# Altium integrated library Transistor.IntLib: 3457 symbols (part 12 of 78)
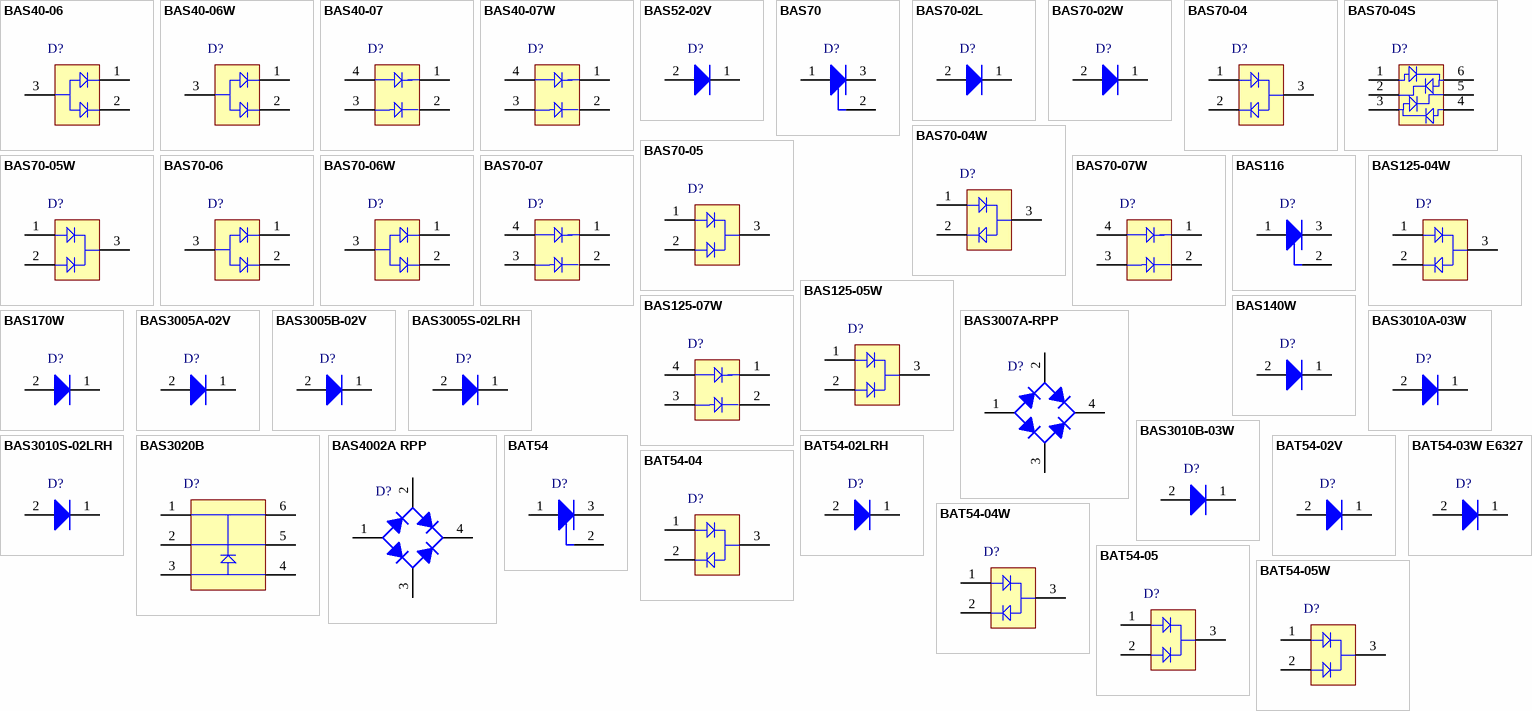
[diagram p105: symbols BAS40-06 to BAT54-05W]

## BAT54-04W
designator D?
Silicon Schottky Diode, SOT323, Reel, Green; Manufacturer: Infineon; PartNumber: BAT54-04W; Configuration: Dual; CT (max): 10 pF; Green: TRUE; IF (max): 200 mA; VF (max): 800 mV; VR (max): 30 V; PackageReference: SOT323; PackageDescription: 3-Pin Small Outline Transistor Package, 1.25 x 2 mm Body, 0.65 mm Pitch; Supplier 1: Mouser; Supplier Part Number 1: N/A; Halogen-free: TRUE; Packing: Reel; Mounting Technology: Surface Mount; ComponentLink1Description: Manufacturer URL; ComponentLink1URL: http://www.infineon.com/; ComponentLink2Description: Datasheet; ComponentLink2URL: http://www.infineon.com/dgdl/bat54series.pdf?folderId=db3a30431400ef68011425f1ca2505e3&fileId=db3a304314dca3890115190b74210ea6; ComponentLink3Description: Package Specification; ComponentLink3URL: http://www.infineon.com/dgdl/SOT323-Package_Overview.pdf?folderId=db3a30431936bc4b0119533e1dcb3c92&fileId=db3a30431936bc4b011953495f283cb1
footprint INF-SOT323_N (SOT23, 3-Leads, Body 2x1.25 mm, Pitch 0.65 mm, IPC Medium Density)
footprint INF-SOT323_L (SOT23, 3-Leads, Body 2x1.25 mm, Pitch 0.65 mm, IPC High Density)
footprint INF-SOT323_M (SOT23, 3-Leads, Body 2x1.25 mm, Pitch 0.65 mm, IPC Low Density)
pins: 1 A1, 2 K2, 3 C

## BAT54-05
designator D?
Silicon Schottky Diode, SOT23, Reel, Green; Manufacturer: Infineon; PartNumber: BAT54-05; Configuration: Dual; CT (max): 10 pF; Green: TRUE; IF (max): 200 mA; VF (max): 800 mV; VR (max): 30 V; PackageVersion: Apr-08; PackageReference: SOT23; PackageDescription: 3-Pin Small Outline Transistor Package, 1.3 x 2.9 mm Body, 0.95 mm Pitch; Supplier 1: Mouser; Supplier Part Number 1: N/A; Packing: Reel; Mounting Technology: Surface Mount; ComponentLink1Description: Manufacturer URL; ComponentLink1URL: http://www.infineon.com/; ComponentLink2Description: Datasheet; ComponentLink2URL: http://www.infineon.com/dgdl/bat54series.pdf?folderId=db3a30431400ef68011425f1ca2505e3&fileId=db3a304314dca3890115190b74210ea6; ComponentLink3Description: Package Specification; ComponentLink3URL: http://www.infineon.com/dgdl/SOT23-Package_Overview.pdf?folderId=db3a30431936bc4b0119532290053c66&fileId=db3a30431936bc4b0119533468123c85
footprint INF-SOT23_N (SOT23, 3-Leads, Body 2.9x1.3 mm, Pitch 0.95 mm, IPC Medium Density)
footprint INF-SOT23_L (SOT23, 3-Leads, Body 2.9x1.3 mm, Pitch 0.95 mm, IPC High Density)
footprint INF-SOT23_M (SOT23, 3-Leads, Body 2.9x1.3 mm, Pitch 0.95 mm, IPC Low Density)
pins: 1 A1, 2 A2, 3 K

## BAT54-05W
designator D?
Silicon Schottky Diode, SOT323, Reel, Green; Manufacturer: Infineon; PartNumber: BAT54-05W; Configuration: Dual; CT (max): 10 pF; Green: TRUE; IF (max): 200 mA; VF (max): 800 mV; VR (max): 30 V; PackageReference: SOT323; PackageDescription: 3-Pin Small Outline Transistor Package, 1.25 x 2 mm Body, 0.65 mm Pitch; Supplier 1: Mouser; Supplier Part Number 1: N/A; Halogen-free: TRUE; Packing: Reel; Mounting Technology: Surface Mount; ComponentLink1Description: Manufacturer URL; ComponentLink1URL: http://www.infineon.com/; ComponentLink2Description: Datasheet; ComponentLink2URL: http://www.infineon.com/dgdl/bat54series.pdf?folderId=db3a30431400ef68011425f1ca2505e3&fileId=db3a304314dca3890115190b74210ea6; ComponentLink3Description: Package Specification; ComponentLink3URL: http://www.infineon.com/dgdl/SOT323-Package_Overview.pdf?folderId=db3a30431936bc4b0119533e1dcb3c92&fileId=db3a30431936bc4b011953495f283cb1
footprint INF-SOT323_N (SOT23, 3-Leads, Body 2x1.25 mm, Pitch 0.65 mm, IPC Medium Density)
footprint INF-SOT323_L (SOT23, 3-Leads, Body 2x1.25 mm, Pitch 0.65 mm, IPC High Density)
footprint INF-SOT323_M (SOT23, 3-Leads, Body 2x1.25 mm, Pitch 0.65 mm, IPC Low Density)
pins: 1 A1, 2 A2, 3 K

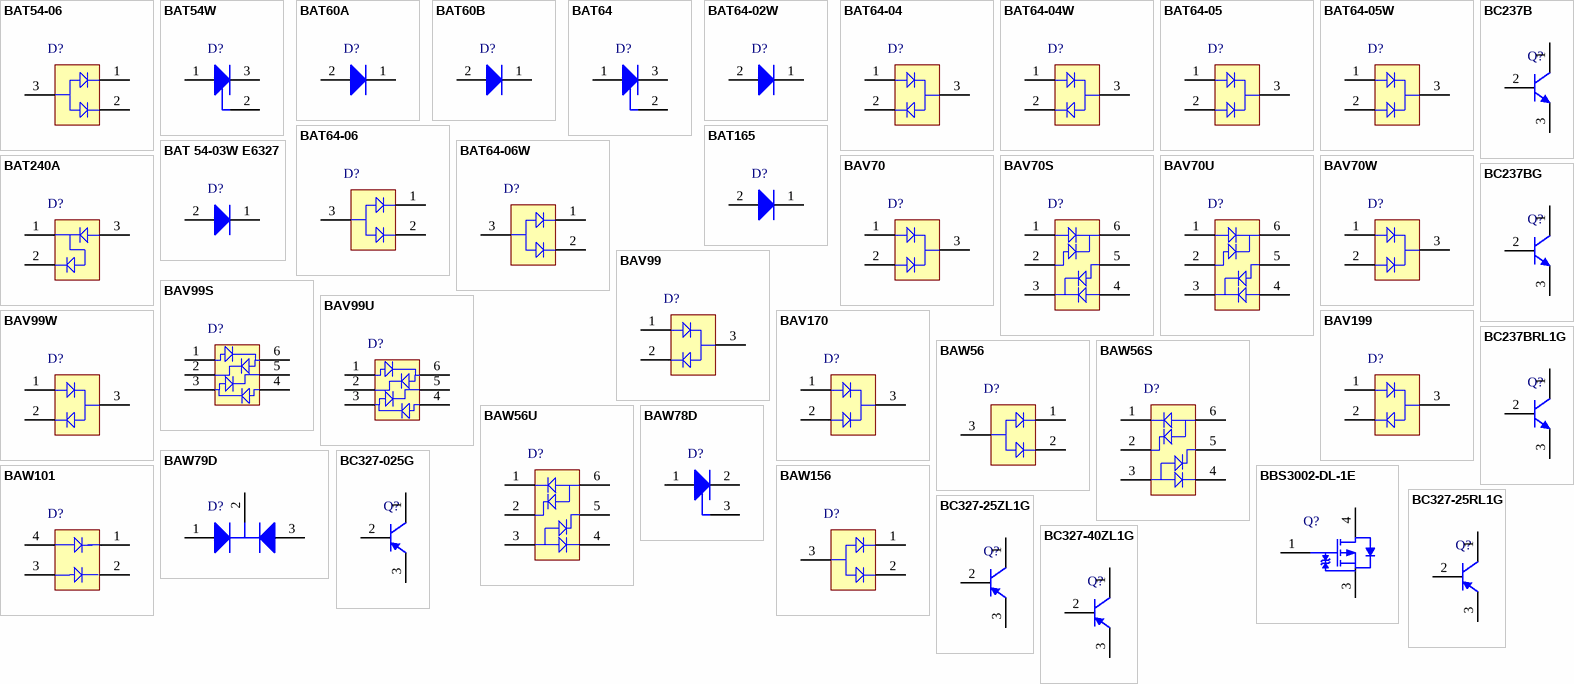
[diagram p13: symbols BAT54-06 to BC327-40ZL1G]

## BAT54-06
designator D?
Silicon Schottky Diode, SOT23, Reel, Green; Manufacturer: Infineon; PartNumber: BAT54-06; Configuration: Single; CT (max): 10 pF; Green: TRUE; IF (max): 200 mA; VF (max): 800 mV; VR (max): 30 V; PackageVersion: Apr-08; PackageReference: SOT23; PackageDescription: 3-Pin Small Outline Transistor Package, 1.3 x 2.9 mm Body, 0.95 mm Pitch; Supplier 1: Mouser; Supplier Part Number 1: N/A; Packing: Reel; Mounting Technology: Surface Mount; ComponentLink1Description: Manufacturer URL; ComponentLink1URL: http://www.infineon.com/; ComponentLink2Description: Datasheet; ComponentLink2URL: http://www.infineon.com/dgdl/bat54series.pdf?folderId=db3a30431400ef68011425f1ca2505e3&fileId=db3a304314dca3890115190b74210ea6; ComponentLink3Description: Package Specification; ComponentLink3URL: http://www.infineon.com/dgdl/SOT23-Package_Overview.pdf?folderId=db3a30431936bc4b0119532290053c66&fileId=db3a30431936bc4b0119533468123c85
footprint INF-SOT23_N (SOT23, 3-Leads, Body 2.9x1.3 mm, Pitch 0.95 mm, IPC Medium Density)
footprint INF-SOT23_L (SOT23, 3-Leads, Body 2.9x1.3 mm, Pitch 0.95 mm, IPC High Density)
footprint INF-SOT23_M (SOT23, 3-Leads, Body 2.9x1.3 mm, Pitch 0.95 mm, IPC Low Density)
pins: 1 K1, 2 K2, 3 A

## BAT54W
designator D?
Silicon Schottky Diode, SOT323, Reel, Green; Manufacturer: Infineon; PartNumber: BAT54W; Green: TRUE; PackageReference: SOT323; PackageDescription: 3-Pin Small Outline Transistor Package, 1.25 x 2 mm Body, 0.65 mm Pitch; Packing: Reel; Mounting Technology: Surface Mount; ComponentLink1Description: Manufacturer URL; ComponentLink1URL: http://www.infineon.com/; ComponentLink2Description: Datasheet; ComponentLink2URL: http://www.infineon.com/dgdl/bat54series.pdf?folderId=db3a30431400ef68011425f1ca2505e3&fileId=db3a304314dca3890115190b74210ea6; ComponentLink3Description: Package Specification; ComponentLink3URL: http://www.infineon.com/dgdl/SOT323-Package_Overview.pdf?folderId=db3a30431936bc4b0119533e1dcb3c92&fileId=db3a30431936bc4b011953495f283cb1
footprint INF-SOT323_N (SOT23, 3-Leads, Body 2x1.25 mm, Pitch 0.65 mm, IPC Medium Density)
footprint INF-SOT323_L (SOT23, 3-Leads, Body 2x1.25 mm, Pitch 0.65 mm, IPC High Density)
footprint INF-SOT323_M (SOT23, 3-Leads, Body 2x1.25 mm, Pitch 0.65 mm, IPC Low Density)
pins: 1 A, 2 NC, 3 K

## BAT60A
designator D?
Silicon Schottky Diode, -55 to 85 degC, SOD323, Reel, Green; Manufacturer: Infineon; PartNumber: BAT60A; Configuration: Single; CT (max): 35 pF; Green: TRUE; IF (max): 3,000 mA; VF (max): 370 mV; VR (max): 10 V; PackageReference: SOT323; PackageDescription: 3-Pin Small Outline Transistor Package, 1.25 x 2 mm Body, 0.65 mm Pitch; Supplier 1: Mouser; Supplier Part Number 1: N/A; Packing: Reel; Mounting Technology: Surface Mount; ComponentLink1Description: Manufacturer URL; ComponentLink1URL: http://www.infineon.com/; ComponentLink2Description: Datasheet; ComponentLink2URL: http://www.infineon.com/dgdl/bat60aseries.pdf?folderId=db3a304313d846880113def5812204a1&fileId=db3a304313d846880113def70c9304a9; ComponentLink3Description: Package Specification; ComponentLink3URL: http://www.infineon.com/dgdl/SOT323-Package_Overview.pdf?folderId=db3a30431936bc4b0119533e1dcb3c92&fileId=db3a30431936bc4b011953495f283cb1
footprint INF-SOT323_N (SOT23, 3-Leads, Body 2x1.25 mm, Pitch 0.65 mm, IPC Medium Density)
footprint INF-SOT323_L (SOT23, 3-Leads, Body 2x1.25 mm, Pitch 0.65 mm, IPC High Density)
footprint INF-SOT323_M (SOT23, 3-Leads, Body 2x1.25 mm, Pitch 0.65 mm, IPC Low Density)
pins: 1 K, 2 A

## BAT60B
designator D?
Silicon Schottky Diode, -55 to 125 degC, SOD323, Reel, Green; Manufacturer: Infineon; PartNumber: BAT60B; Configuration: Single; CT (max): 30 pF; Green: TRUE; IF (max): 3,000 mA; VF (max): 600 mV; VR (max): 10 V; PackageReference: SOT323; PackageDescription: 3-Pin Small Outline Transistor Package, 1.25 x 2 mm Body, 0.65 mm Pitch; Supplier 1: Mouser; Supplier Part Number 1: N/A; Packing: Reel; Mounting Technology: Surface Mount; ComponentLink1Description: Manufacturer URL; ComponentLink1URL: http://www.infineon.com/; ComponentLink2Description: Datasheet; ComponentLink2URL: http://www.infineon.com/dgdl/bat60bseries.pdf?folderId=db3a304313d846880113def5812204a1&fileId=db3a304314dca3890115195908c50f0b; ComponentLink3Description: Package Specification; ComponentLink3URL: http://www.infineon.com/dgdl/SOT323-Package_Overview.pdf?folderId=db3a30431936bc4b0119533e1dcb3c92&fileId=db3a30431936bc4b011953495f283cb1
footprint INF-SOT323_N (SOT23, 3-Leads, Body 2x1.25 mm, Pitch 0.65 mm, IPC Medium Density)
footprint INF-SOT323_L (SOT23, 3-Leads, Body 2x1.25 mm, Pitch 0.65 mm, IPC High Density)
footprint INF-SOT323_M (SOT23, 3-Leads, Body 2x1.25 mm, Pitch 0.65 mm, IPC Low Density)
pins: 1 K, 2 A

## BAT64
designator D?
Silicon Schottky Diode, SOT23, Reel, Green; Manufacturer: Infineon; PartNumber: BAT64; Configuration: Single; CT (max): 6 pF; Green: TRUE; IF (max): 250 mA; VF (max): 750 mV; VR (max): 40 V; PackageVersion: Apr-08; PackageReference: SOT23; PackageDescription: 3-Pin Small Outline Transistor Package, 1.3 x 2.9 mm Body, 0.95 mm Pitch; Packing: Reel; Mounting Technology: Surface Mount; ComponentLink1Description: Manufacturer URL; ComponentLink1URL: http://www.infineon.com/; ComponentLink2Description: Datasheet; ComponentLink2URL: http://www.infineon.com/dgdl/bat64series.pdf?folderId=db3a30431400ef68011425f1ca2505e3&fileId=db3a304314dca3890115191757980ead; ComponentLink3Description: Package Specification; ComponentLink3URL: http://www.infineon.com/dgdl/SOT23-Package_Overview.pdf?folderId=db3a30431936bc4b0119532290053c66&fileId=db3a30431936bc4b0119533468123c85
footprint INF-SOT23_N (SOT23, 3-Leads, Body 2.9x1.3 mm, Pitch 0.95 mm, IPC Medium Density)
footprint INF-SOT23_L (SOT23, 3-Leads, Body 2.9x1.3 mm, Pitch 0.95 mm, IPC High Density)
footprint INF-SOT23_M (SOT23, 3-Leads, Body 2.9x1.3 mm, Pitch 0.95 mm, IPC Low Density)
pins: 1 A, 2 NC, 3 K

## BAT64-02W
designator D?
Silicon Schottky Diode, SCD80, Reel, Green; Manufacturer: Infineon; PartNumber: BAT64-02W; Green: TRUE; PackageReference: SCD80; PackageDescription: 2-Pin Semiconductor Diode Package, 0.8 x 1.3 mm Body; Supplier 1: Mouser; Supplier Part Number 1: N/A; Supplier 2: Newark; Supplier Part Number 2: 68R0435; Supplier 3: Farnell; Supplier Part Number 3: 1791471; Halogen-free: TRUE; Mounting Technology: Surface Mount; ComponentLink1Description: Manufacturer URL; ComponentLink1URL: http://www.infineon.com/; ComponentLink2Description: Datasheet; ComponentLink2URL: http://www.infineon.com/dgdl/bat64series.pdf?folderId=db3a30431400ef68011425f1ca2505e3&fileId=db3a304314dca3890115191757980ead; ComponentLink3Description: Package Specification; ComponentLink3URL: http://www.infineon.com/dgdl/SCD80-Package_Overview.pdf?folderId=db3a30431936bc4b0119526bd5c83b5c&fileId=db3a30431936bc4b0119528065a43b7a
footprint INF-SCD80_V (SCD80, 2-Leads, Body 0.8x1.3 mm)
pins: 1 K, 2 A

## BAT64-04
designator D?
Silicon Schottky Diode, SOT23, Reel, Green; Manufacturer: Infineon; PartNumber: BAT64-04; Configuration: Dual; CT (max): 6 pF; Green: TRUE; IF (max): 250 mA; VF (max): 750 mV; VR (max): 40 V; PackageVersion: Apr-08; PackageReference: SOT23; PackageDescription: 3-Pin Small Outline Transistor Package, 1.3 x 2.9 mm Body, 0.95 mm Pitch; Supplier 1: Mouser; Supplier Part Number 1: N/A; Packing: Reel; Mounting Technology: Surface Mount; ComponentLink1Description: Manufacturer URL; ComponentLink1URL: http://www.infineon.com/; ComponentLink2Description: Datasheet; ComponentLink2URL: http://www.infineon.com/dgdl/bat64series.pdf?folderId=db3a30431400ef68011425f1ca2505e3&fileId=db3a304314dca3890115191757980ead; ComponentLink3Description: Package Specification; ComponentLink3URL: http://www.infineon.com/dgdl/SOT23-Package_Overview.pdf?folderId=db3a30431936bc4b0119532290053c66&fileId=db3a30431936bc4b0119533468123c85
footprint INF-SOT23_N (SOT23, 3-Leads, Body 2.9x1.3 mm, Pitch 0.95 mm, IPC Medium Density)
footprint INF-SOT23_L (SOT23, 3-Leads, Body 2.9x1.3 mm, Pitch 0.95 mm, IPC High Density)
footprint INF-SOT23_M (SOT23, 3-Leads, Body 2.9x1.3 mm, Pitch 0.95 mm, IPC Low Density)
pins: 1 A1, 2 K2, 3 C

## BAT64-04W
designator D?
Silicon Schottky Diode, SOT323, Reel, Green; Manufacturer: Infineon; PartNumber: BAT64-04W; Configuration: Dual; CT (max): 6 pF; Green: TRUE; IF (max): 250 mA; VF (max): 750 mV; VR (max): 40 V; PackageReference: SOT323; PackageDescription: 3-Pin Small Outline Transistor Package, 1.25 x 2 mm Body, 0.65 mm Pitch; Supplier 1: Mouser; Supplier Part Number 1: N/A; Halogen-free: TRUE; Packing: Reel; Mounting Technology: Surface Mount; ComponentLink1Description: Manufacturer URL; ComponentLink1URL: http://www.infineon.com/; ComponentLink2Description: Datasheet; ComponentLink2URL: http://www.infineon.com/dgdl/bat64series.pdf?folderId=db3a30431400ef68011425f1ca2505e3&fileId=db3a304314dca3890115191757980ead; ComponentLink3Description: Package Specification; ComponentLink3URL: http://www.infineon.com/dgdl/SOT323-Package_Overview.pdf?folderId=db3a30431936bc4b0119533e1dcb3c92&fileId=db3a30431936bc4b011953495f283cb1
footprint INF-SOT323_N (SOT23, 3-Leads, Body 2x1.25 mm, Pitch 0.65 mm, IPC Medium Density)
footprint INF-SOT323_L (SOT23, 3-Leads, Body 2x1.25 mm, Pitch 0.65 mm, IPC High Density)
footprint INF-SOT323_M (SOT23, 3-Leads, Body 2x1.25 mm, Pitch 0.65 mm, IPC Low Density)
pins: 1 A1, 2 K2, 3 C

## BAT64-05
designator D?
Silicon Schottky Diode, SOT23, Reel, Green; Manufacturer: Infineon; PartNumber: BAT64-05; Configuration: Dual; CT (max): 6 pF; Green: TRUE; IF (max): 250 mA; VF (max): 750 mV; VR (max): 40 V; PackageVersion: Apr-08; PackageReference: SOT23; PackageDescription: 3-Pin Small Outline Transistor Package, 1.3 x 2.9 mm Body, 0.95 mm Pitch; Supplier 1: Mouser; Supplier Part Number 1: N/A; Packing: Reel; Mounting Technology: Surface Mount; ComponentLink1Description: Manufacturer URL; ComponentLink1URL: http://www.infineon.com/; ComponentLink2Description: Datasheet; ComponentLink2URL: http://www.infineon.com/dgdl/bat64series.pdf?folderId=db3a30431400ef68011425f1ca2505e3&fileId=db3a304314dca3890115191757980ead; ComponentLink3Description: Package Specification; ComponentLink3URL: http://www.infineon.com/dgdl/SOT23-Package_Overview.pdf?folderId=db3a30431936bc4b0119532290053c66&fileId=db3a30431936bc4b0119533468123c85
footprint INF-SOT23_N (SOT23, 3-Leads, Body 2.9x1.3 mm, Pitch 0.95 mm, IPC Medium Density)
footprint INF-SOT23_L (SOT23, 3-Leads, Body 2.9x1.3 mm, Pitch 0.95 mm, IPC High Density)
footprint INF-SOT23_M (SOT23, 3-Leads, Body 2.9x1.3 mm, Pitch 0.95 mm, IPC Low Density)
pins: 1 A1, 2 A2, 3 K

## BAT64-05W
designator D?
Silicon Schottky Diode, SOT323, Reel, Green; Manufacturer: Infineon; PartNumber: BAT64-05W; Configuration: Dual; CT (max): 6 pF; Green: TRUE; IF (max): 250 mA; VF (max): 750 mV; VR (max): 40 V; PackageReference: SOT323; PackageDescription: 3-Pin Small Outline Transistor Package, 1.25 x 2 mm Body, 0.65 mm Pitch; Supplier 1: Mouser; Supplier Part Number 1: N/A; Halogen-free: TRUE; Packing: Reel; Mounting Technology: Surface Mount; ComponentLink1Description: Manufacturer URL; ComponentLink1URL: http://www.infineon.com/; ComponentLink2Description: Datasheet; ComponentLink2URL: http://www.infineon.com/dgdl/bat64series.pdf?folderId=db3a30431400ef68011425f1ca2505e3&fileId=db3a304314dca3890115191757980ead; ComponentLink3Description: Package Specification; ComponentLink3URL: http://www.infineon.com/dgdl/SOT323-Package_Overview.pdf?folderId=db3a30431936bc4b0119533e1dcb3c92&fileId=db3a30431936bc4b011953495f283cb1
footprint INF-SOT323_N (SOT23, 3-Leads, Body 2x1.25 mm, Pitch 0.65 mm, IPC Medium Density)
footprint INF-SOT323_L (SOT23, 3-Leads, Body 2x1.25 mm, Pitch 0.65 mm, IPC High Density)
footprint INF-SOT323_M (SOT23, 3-Leads, Body 2x1.25 mm, Pitch 0.65 mm, IPC Low Density)
pins: 1 A1, 2 A2, 3 K

## BAT64-06
designator D?
Silicon Schottky Diode, SOT23, Reel, Green; Manufacturer: Infineon; PartNumber: BAT64-06; Configuration: Dual; CT (max): 6 pF; Green: TRUE; IF (max): 250 mA; VF (max): 750 mV; VR (max): 40 V; PackageVersion: Apr-08; PackageReference: SOT23; PackageDescription: 3-Pin Small Outline Transistor Package, 1.3 x 2.9 mm Body, 0.95 mm Pitch; Supplier 1: Mouser; Supplier Part Number 1: N/A; Packing: Reel; Mounting Technology: Surface Mount; ComponentLink1Description: Manufacturer URL; ComponentLink1URL: http://www.infineon.com/; ComponentLink2Description: Datasheet; ComponentLink2URL: http://www.infineon.com/dgdl/bat64series.pdf?folderId=db3a30431400ef68011425f1ca2505e3&fileId=db3a304314dca3890115191757980ead; ComponentLink3Description: Package Specification; ComponentLink3URL: http://www.infineon.com/dgdl/SOT23-Package_Overview.pdf?folderId=db3a30431936bc4b0119532290053c66&fileId=db3a30431936bc4b0119533468123c85
footprint INF-SOT23_N (SOT23, 3-Leads, Body 2.9x1.3 mm, Pitch 0.95 mm, IPC Medium Density)
footprint INF-SOT23_L (SOT23, 3-Leads, Body 2.9x1.3 mm, Pitch 0.95 mm, IPC High Density)
footprint INF-SOT23_M (SOT23, 3-Leads, Body 2.9x1.3 mm, Pitch 0.95 mm, IPC Low Density)
pins: 1 K1, 2 K2, 3 A

## BAT64-06W
designator D?
Silicon Schottky Diode, SOT323, Reel, Green; Manufacturer: Infineon; PartNumber: BAT64-06W; Configuration: Dual; CT (max): 6 pF; Green: TRUE; IF (max): 250 mA; VF (max): 750 mV; VR (max): 40 V; PackageReference: SOT323; PackageDescription: 3-Pin Small Outline Transistor Package, 1.25 x 2 mm Body, 0.65 mm Pitch; Supplier 1: Mouser; Supplier Part Number 1: N/A; Halogen-free: TRUE; Packing: Reel; Mounting Technology: Surface Mount; ComponentLink1Description: Manufacturer URL; ComponentLink1URL: http://www.infineon.com/; ComponentLink2Description: Datasheet; ComponentLink2URL: http://www.infineon.com/dgdl/bat64series.pdf?folderId=db3a30431400ef68011425f1ca2505e3&fileId=db3a304314dca3890115191757980ead; ComponentLink3Description: Package Specification; ComponentLink3URL: http://www.infineon.com/dgdl/SOT323-Package_Overview.pdf?folderId=db3a30431936bc4b0119533e1dcb3c92&fileId=db3a30431936bc4b011953495f283cb1
footprint INF-SOT323_N (SOT23, 3-Leads, Body 2x1.25 mm, Pitch 0.65 mm, IPC Medium Density)
footprint INF-SOT323_L (SOT23, 3-Leads, Body 2x1.25 mm, Pitch 0.65 mm, IPC High Density)
footprint INF-SOT323_M (SOT23, 3-Leads, Body 2x1.25 mm, Pitch 0.65 mm, IPC Low Density)
pins: 1 K1, 2 K2, 3 A

## BAT165
designator D?
Medium Power AF Schottky Diode, SOD323, Reel, Green; Manufacturer: Infineon; PartNumber: BAT165; Configuration: Single; CT (max): 12 pF; Green: TRUE; IF (max): 750 mA; VF (max): 700 mV; VR (max): 40 V; PackageReference: SOD323; PackageDescription: 2-Pin Small Outline Diode Package, 1.25 x 1.7 mm Body; Supplier 1: Mouser; Supplier Part Number 1: N/A; Supplier 2: Newark; Supplier Part Number 2: 34M5211; Supplier 3: Farnell; Supplier Part Number 3: 1056502RL; Supplier 4: Farnell; Supplier Part Number 4: 1056502; Packing: Reel; Mounting Technology: Surface Mount; ComponentLink1Description: Manufacturer URL; ComponentLink1URL: http://www.infineon.com/; ComponentLink2Description: Datasheet; ComponentLink2URL: http://www.infineon.com/dgdl/bat165series.pdf?folderId=db3a304313d846880113def5812204a1&fileId=db3a304313d846880113df01f69804d6; ComponentLink3Description: Package Specification; ComponentLink3URL: http://www.infineon.com/dgdl/SOD323-Package_Overview.pdf?folderId=db3a30431936bc4b011952aab84f3bbe&fileId=db3a30431936bc4b011952beed653be3
footprint INF-SOD323_V (SOD, 2-Leads, Body 1.7x1.25 mm)
pins: 1 K, 2 A

## BAT240A
designator D?
High Voltage Schottky Diode, -55 to 125 degC, SOT23, Reel, Green; Manufacturer: Infineon; PartNumber: BAT240A; Configuration: Single; Green: TRUE; IF (max): 400 mA; IR (max): 10 uA; VBR (min): 240 V; VF (max): 0.47 V; PackageVersion: Apr-08; PackageReference: SOT23; PackageDescription: 3-Pin Small Outline Transistor Package, 1.3 x 2.9 mm Body, 0.95 mm Pitch; Supplier 1: Mouser; Supplier Part Number 1: N/A; VR (max): 240 V; Mounting Technology: Surface Mount; ComponentLink1Description: Manufacturer URL; ComponentLink1URL: http://www.infineon.com/; ComponentLink2Description: Datasheet; ComponentLink2URL: http://www.infineon.com/dgdl/bat240series.pdf?folderId=db3a30431400ef68011425f1ca2505e3&fileId=db3a30431400ef68011425f3496905e4; ComponentLink3Description: Package Specification; ComponentLink3URL: http://www.infineon.com/dgdl/SOT23-Package_Overview.pdf?folderId=db3a30431936bc4b0119532290053c66&fileId=db3a30431936bc4b0119533468123c85
footprint INF-SOT23_N (SOT23, 3-Leads, Body 2.9x1.3 mm, Pitch 0.95 mm, IPC Medium Density)
footprint INF-SOT23_L (SOT23, 3-Leads, Body 2.9x1.3 mm, Pitch 0.95 mm, IPC High Density)
footprint INF-SOT23_M (SOT23, 3-Leads, Body 2.9x1.3 mm, Pitch 0.95 mm, IPC Low Density)
pins: 1 C, 2 K2, 3 A1

## BAT 54-03W E6327
designator D?
Silicon Schottky Diode, SOD323, Reel, Green; Manufacturer: Infineon; PartNumber: BAT 54-03W E6327; Green: TRUE; PackageReference: SOD323; PackageDescription: 2-Pin Small Outline Diode Package, 1.25 x 1.7 mm Body; Supplier 1: Digi-Key; Supplier Part Number 1: BAT 54-03W E6327-ND; Packing: Reel; Mounting Technology: Surface Mount; ComponentLink1Description: Manufacturer URL; ComponentLink1URL: http://www.infineon.com/; ComponentLink2Description: Datasheet; ComponentLink2URL: http://www.infineon.com/dgdl/bat54series.pdf?folderId=db3a30431400ef68011425f1ca2505e3&fileId=db3a304314dca3890115190b74210ea6; ComponentLink3Description: Package Specification; ComponentLink3URL: http://www.infineon.com/dgdl/SOD323-Package_Overview.pdf?folderId=db3a30431936bc4b011952aab84f3bbe&fileId=db3a30431936bc4b011952beed653be3
footprint INF-SOD323_V (SOD, 2-Leads, Body 1.7x1.25 mm)
pins: 1 K, 2 A

## BAV70
designator D?
Silicon Switching Diode, SOT23, Reel, Green; Manufacturer: Infineon; PartNumber: BAV70; Configuration: Dual; Green: TRUE; IF (max): 200 mA; IR (max): 150 nA; trr (max): 4 ns; VBR (min): 85 V; VF (max): 1.25 V; VR (max): 80 V; PackageVersion: Apr-08; PackageReference: SOT23; PackageDescription: 3-Pin Small Outline Transistor Package, 1.3 x 2.9 mm Body, 0.95 mm Pitch; Supplier 1: Newark; Supplier Part Number 1: 14M4487; Supplier 2: Farnell; Supplier Part Number 2: 1056503; Supplier 3: Farnell; Supplier Part Number 3: 1056503RL; Mounting Technology: Surface Mount; ComponentLink1Description: Manufacturer URL; ComponentLink1URL: http://www.infineon.com/; ComponentLink2Description: Datasheet; ComponentLink2URL: http://www.infineon.com/dgdl/bav70series.pdf?folderId=db3a30431400ef6801141b5844e103ea&fileId=db3a30431400ef6801141c0ba40e041d; ComponentLink3Description: Package Specification; ComponentLink3URL: http://www.infineon.com/dgdl/SOT23-Package_Overview.pdf?folderId=db3a30431936bc4b0119532290053c66&fileId=db3a30431936bc4b0119533468123c85
footprint INF-SOT23_N (SOT23, 3-Leads, Body 2.9x1.3 mm, Pitch 0.95 mm, IPC Medium Density)
footprint INF-SOT23_L (SOT23, 3-Leads, Body 2.9x1.3 mm, Pitch 0.95 mm, IPC High Density)
footprint INF-SOT23_M (SOT23, 3-Leads, Body 2.9x1.3 mm, Pitch 0.95 mm, IPC Low Density)
pins: 1 A1, 2 A2, 3 K

## BAV70S
designator D?
Silicon Switching Diode, SOT363, Reel, Green; Manufacturer: Infineon; PartNumber: BAV70S; Configuration: Double dual; Green: TRUE; IF (max): 200 mA; IR (max): 150 nA; trr (max): 4 ns; VBR (min): 85 V; VF (max): 1.25 V; VR (max): 80 V; PackageReference: SOT363; PackageDescription: 6-Pin Small Outline Transistor Package, 1.25 x 2 mm Body; Halogen-free: TRUE; Mounting Technology: Surface Mount; ComponentLink1Description: Manufacturer URL; ComponentLink1URL: http://www.infineon.com/; ComponentLink2Description: Datasheet; ComponentLink2URL: http://www.infineon.com/dgdl/bav70series.pdf?folderId=db3a30431400ef6801141b5844e103ea&fileId=db3a30431400ef6801141c0ba40e041d; ComponentLink3Description: Package Specification; ComponentLink3URL: http://www.infineon.com/dgdl/SOT363-Package_Overview.pdf?folderId=db3a30431936bc4b01195360bd8f3cdc&fileId=db3a30431936bc4b0119536b62bf3cf5
footprint INF-SOT363_V (SOT23, 6-Leads, Body 2x1.25 mm, Pitch 0.65 mm)
pins: 1 A1, 2 A2, 3 K3, 4 A4, 5 A5, 6 K6

## BAV70U
designator D?
Silicon Switching Diode, SC74, Reel, Green; Manufacturer: Infineon; PartNumber: BAV70U; Configuration: Double dual; Green: TRUE; IF (max): 200 mA; IR (max): 150 nA; trr (max): 4 ns; VBR (min): 85 V; VF (max): 1.25 V; VR (max): 80 V; PackageVersion: Apr-08; PackageReference: SC74; PackageDescription: 6-Pin Semiconductor Package, 2.9 x 1.6 mm Body, 0.95 mm Pitch; Supplier 1: Mouser; Supplier Part Number 1: N/A; Mounting Technology: Surface Mount; ComponentLink1Description: Manufacturer URL; ComponentLink1URL: http://www.infineon.com/; ComponentLink2Description: Datasheet; ComponentLink2URL: http://www.infineon.com/dgdl/bav70series.pdf?folderId=db3a30431400ef6801141b5844e103ea&fileId=db3a30431400ef6801141c0ba40e041d; ComponentLink3Description: Package Specification; ComponentLink3URL: http://www.infineon.com/dgdl/SC74-Package_Overview.pdf?folderId=db3a30431936bc4b01194dec844f40d9&fileId=db3a30431936bc4b01195175d46e3ab3
footprint INF-SC74_N (SOT23, 6-Leads, Body 2.9x1.6mm, Pitch 0.95mm, IPC Medium Density)
footprint INF-SC74_L (SOT23, 6-Leads, Body 2.9x1.6mm, Pitch 0.95mm, IPC High Density)
footprint INF-SC74_M (SOT23, 6-Leads, Body 2.9x1.6mm, Pitch 0.95mm, IPC Low Density)
pins: 1 A1, 2 A2, 3 K3, 4 A4, 5 A5, 6 K6

## BAV70W
designator D?
Silicon Switching Diode, SOT323, Reel, Green; Manufacturer: Infineon; PartNumber: BAV70W; Configuration: Dual; Green: TRUE; IF (max): 200 mA; IR (max): 150 nA; trr (max): 4 ns; VBR (min): 85 V; VF (max): 1.25 V; VR (max): 80 V; PackageReference: SOT323; PackageDescription: 3-Pin Small Outline Transistor Package, 1.25 x 2 mm Body, 0.65 mm Pitch; Supplier 1: Arrow; Supplier Part Number 1: rew_W9gXtQS1zu5LZcYw6ec56YdkqtewGxa5ZWzM5Ck; Halogen-free: TRUE; Mounting Technology: Surface Mount; ComponentLink1Description: Manufacturer URL; ComponentLink1URL: http://www.infineon.com/; ComponentLink2Description: Datasheet; ComponentLink2URL: http://www.infineon.com/dgdl/bav70series.pdf?folderId=db3a30431400ef6801141b5844e103ea&fileId=db3a30431400ef6801141c0ba40e041d; ComponentLink3Description: Package Specification; ComponentLink3URL: http://www.infineon.com/dgdl/SOT323-Package_Overview.pdf?folderId=db3a30431936bc4b0119533e1dcb3c92&fileId=db3a30431936bc4b011953495f283cb1
footprint INF-SOT323_N (SOT23, 3-Leads, Body 2x1.25 mm, Pitch 0.65 mm, IPC Medium Density)
footprint INF-SOT323_L (SOT23, 3-Leads, Body 2x1.25 mm, Pitch 0.65 mm, IPC High Density)
footprint INF-SOT323_M (SOT23, 3-Leads, Body 2x1.25 mm, Pitch 0.65 mm, IPC Low Density)
pins: 1 A1, 2 A2, 3 K

## BAV99
designator D?
Silicon Switching Diode, SOT23, Reel, Green; Manufacturer: Infineon; PartNumber: BAV99; Green: TRUE; PackageVersion: Apr-08; PackageReference: SOT23; PackageDescription: 3-Pin Small Outline Transistor Package, 1.3 x 2.9 mm Body, 0.95 mm Pitch; Supplier 1: Arrow; Supplier Part Number 1: 8_hDx09NysxyY_EZJdaSbs5L1p9U5ut-2MaZMQWGOaA; Supplier 2: Farnell; Supplier Part Number 2: 1056504RL; Supplier 3: Farnell; Supplier Part Number 3: 1056504; Packing: Reel; Mounting Technology: Surface Mount; ComponentLink1Description: Manufacturer URL; ComponentLink1URL: http://www.infineon.com/; ComponentLink2Description: Datasheet; ComponentLink2URL: http://www.infineon.com/dgdl/bav99series.pdf?folderId=db3a30431400ef6801141b5844e103ea&fileId=db3a30431400ef6801141c1b237d042f; ComponentLink3Description: Package Specification; ComponentLink3URL: http://www.infineon.com/dgdl/smbta14_mmbta14.pdf?folderId=db3a30431441fb5d011445c30f210183&fileId=db3a30431441fb5d011445ef0201018c
footprint INF-SOT23_N (SOT23, 3-Leads, Body 2.9x1.3 mm, Pitch 0.95 mm, IPC Medium Density)
footprint INF-SOT23_L (SOT23, 3-Leads, Body 2.9x1.3 mm, Pitch 0.95 mm, IPC High Density)
footprint INF-SOT23_M (SOT23, 3-Leads, Body 2.9x1.3 mm, Pitch 0.95 mm, IPC Low Density)
pins: 1 A1, 2 K2, 3 C

## BAV99S
designator D?
Silicon Switching Diode, SOT363, Reel, Green; Manufacturer: Infineon; PartNumber: BAV99S; Configuration: Quadruple; Green: TRUE; IF (max): 200 mA; IR (max): 150 nA; trr (max): 4 ns; VBR (min): 85 V; VF (max): 1.25 V; VR (max): 80 V; PackageReference: SOT363; PackageDescription: 6-Pin Small Outline Transistor Package, 1.25 x 2 mm Body; Halogen-free: TRUE; Mounting Technology: Surface Mount; ComponentLink1Description: Manufacturer URL; ComponentLink1URL: http://www.infineon.com/; ComponentLink2Description: Datasheet; ComponentLink2URL: http://www.infineon.com/dgdl/bav99series.pdf?folderId=db3a30431400ef6801141b5844e103ea&fileId=db3a30431400ef6801141c1b237d042f; ComponentLink3Description: Package Specification; ComponentLink3URL: http://www.infineon.com/dgdl/SOT363-Package_Overview.pdf?folderId=db3a30431936bc4b01195360bd8f3cdc&fileId=db3a30431936bc4b0119536b62bf3cf5
footprint INF-SOT363_V (SOT23, 6-Leads, Body 2x1.25 mm, Pitch 0.65 mm)
pins: 1 A1, 2 K2, 3 C3, 4 A4, 5 K5, 6 C6

## BAV99U
designator D?
Silicon Switching Diode, SC74, Reel, Green; Manufacturer: Infineon; PartNumber: BAV99U; Configuration: Quadruple; Green: TRUE; IF (max): 200 mA; IR (max): 150 nA; trr (max): 4 ns; VBR (min): 85 V; VF (max): 1.25 V; VR (max): 80 V; PackageVersion: Apr-08; PackageReference: SC74; PackageDescription: 6-Pin Semiconductor Package, 2.9 x 1.6 mm Body, 0.95 mm Pitch; Supplier 1: Mouser; Supplier Part Number 1: N/A; Mounting Technology: Surface Mount; ComponentLink1Description: Manufacturer URL; ComponentLink1URL: http://www.infineon.com/; ComponentLink2Description: Datasheet; ComponentLink2URL: http://www.infineon.com/dgdl/bav99series.pdf?folderId=db3a30431400ef6801141b5844e103ea&fileId=db3a30431400ef6801141c1b237d042f; ComponentLink3Description: Package Specification; ComponentLink3URL: http://www.infineon.com/dgdl/SC74-Package_Overview.pdf?folderId=db3a30431936bc4b01194dec844f40d9&fileId=db3a30431936bc4b01195175d46e3ab3
footprint INF-SC74_N (SOT23, 6-Leads, Body 2.9x1.6mm, Pitch 0.95mm, IPC Medium Density)
footprint INF-SC74_L (SOT23, 6-Leads, Body 2.9x1.6mm, Pitch 0.95mm, IPC High Density)
footprint INF-SC74_M (SOT23, 6-Leads, Body 2.9x1.6mm, Pitch 0.95mm, IPC Low Density)
pins: 1 A1, 2 K2, 3 C3, 4 A4, 5 K5, 6 C6

## BAV99W
designator D?
Silicon Switching Diode, SOT323, Reel, Green; Manufacturer: Infineon; PartNumber: BAV99W; Green: TRUE; PackageReference: SOT323; PackageDescription: 3-Pin Small Outline Transistor Package, 1.25 x 2 mm Body, 0.65 mm Pitch; Supplier 1: Farnell; Supplier Part Number 1: 1056507RL; Halogen-free: TRUE; Mounting Technology: Surface Mount; ComponentLink1Description: Manufacturer URL; ComponentLink1URL: http://www.infineon.com/; ComponentLink2Description: Datasheet; ComponentLink2URL: http://www.infineon.com/dgdl/bav99series.pdf?folderId=db3a30431400ef6801141b5844e103ea&fileId=db3a30431400ef6801141c1b237d042f; ComponentLink3Description: Package Specification; ComponentLink3URL: http://www.infineon.com/dgdl/SOT323-Package_Overview.pdf?folderId=db3a30431936bc4b0119533e1dcb3c92&fileId=db3a30431936bc4b011953495f283cb1
footprint INF-SOT323_N (SOT23, 3-Leads, Body 2x1.25 mm, Pitch 0.65 mm, IPC Medium Density)
footprint INF-SOT323_L (SOT23, 3-Leads, Body 2x1.25 mm, Pitch 0.65 mm, IPC High Density)
footprint INF-SOT323_M (SOT23, 3-Leads, Body 2x1.25 mm, Pitch 0.65 mm, IPC Low Density)
pins: 1 A1, 2 K2, 3 C

## BAV170
designator D?
Silicon Low Leakage Diode Array, -65 to 150 degC, SOT23, Reel, Green; Manufacturer: Infineon; PartNumber: BAV170; Green: TRUE; PackageVersion: Apr-08; PackageReference: SOT23; PackageDescription: 3-Pin Small Outline Transistor Package, 1.3 x 2.9 mm Body, 0.95 mm Pitch; Packing: Reel; Mounting Technology: Surface Mount; ComponentLink1Description: Manufacturer URL; ComponentLink1URL: http://www.infineon.com/; ComponentLink2Description: Datasheet; ComponentLink2URL: http://www.infineon.com/dgdl/bav170series.pdf?folderId=db3a30431400ef6801141c748874044e&fileId=db3a30431400ef6801141cb8e81404e3; ComponentLink3Description: Package Specification; ComponentLink3URL: http://www.infineon.com/dgdl/smbta14_mmbta14.pdf?folderId=db3a30431441fb5d011445c30f210183&fileId=db3a30431441fb5d011445ef0201018c
footprint INF-SOT23_N (SOT23, 3-Leads, Body 2.9x1.3 mm, Pitch 0.95 mm, IPC Medium Density)
footprint INF-SOT23_L (SOT23, 3-Leads, Body 2.9x1.3 mm, Pitch 0.95 mm, IPC High Density)
footprint INF-SOT23_M (SOT23, 3-Leads, Body 2.9x1.3 mm, Pitch 0.95 mm, IPC Low Density)
pins: 1 A1, 2 A2, 3 K

## BAV199
designator D?
Silicon Low Leakage Diode, -65 to 150 degC, SOT23, Reel, Green; Manufacturer: Infineon; PartNumber: BAV199; Green: TRUE; PackageVersion: Apr-08; PackageReference: SOT23; PackageDescription: 3-Pin Small Outline Transistor Package, 1.3 x 2.9 mm Body, 0.95 mm Pitch; Supplier 1: Newark; Supplier Part Number 1: 25M7655; Supplier 2: Farnell; Supplier Part Number 2: 1156415; Supplier 3: Farnell; Supplier Part Number 3: 1156415RL; Packing: Reel; Mounting Technology: Surface Mount; ComponentLink1Description: Manufacturer URL; ComponentLink1URL: http://www.infineon.com/; ComponentLink2Description: Datasheet; ComponentLink2URL: http://www.infineon.com/dgdl/bav199series.pdf?folderId=db3a30431400ef6801141c748874044e&fileId=db3a30431400ef6801141cba733104e5; ComponentLink3Description: Package Specification; ComponentLink3URL: http://www.infineon.com/dgdl/smbta14_mmbta14.pdf?folderId=db3a30431441fb5d011445c30f210183&fileId=db3a30431441fb5d011445ef0201018c
footprint INF-SOT23_N (SOT23, 3-Leads, Body 2.9x1.3 mm, Pitch 0.95 mm, IPC Medium Density)
footprint INF-SOT23_L (SOT23, 3-Leads, Body 2.9x1.3 mm, Pitch 0.95 mm, IPC High Density)
footprint INF-SOT23_M (SOT23, 3-Leads, Body 2.9x1.3 mm, Pitch 0.95 mm, IPC Low Density)
pins: 1 A1, 2 K2, 3 C

## BAW56
designator D?
Silicon Switching Diode, SOT23, Reel, Green; Manufacturer: Infineon; PartNumber: BAW56; Green: TRUE; PackageVersion: Apr-08; PackageReference: SOT23; PackageDescription: 3-Pin Small Outline Transistor Package, 1.3 x 2.9 mm Body, 0.95 mm Pitch; Supplier 1: Arrow; Supplier Part Number 1: QkdXEZeBI9G6MSbJaSVTVIw9QqamJ1ki-yYCrM1PqQ4; Packing: Reel; Mounting Technology: Surface Mount; ComponentLink1Description: Manufacturer URL; ComponentLink1URL: http://www.infineon.com/; ComponentLink2Description: Datasheet; ComponentLink2URL: http://www.infineon.com/dgdl/baw56series.pdf?folderId=db3a30431400ef6801141b5844e103ea&fileId=db3a30431400ef6801141c24a4a80438; ComponentLink3Description: Package Specification; ComponentLink3URL: http://www.infineon.com/dgdl/smbta14_mmbta14.pdf?folderId=db3a30431441fb5d011445c30f210183&fileId=db3a30431441fb5d011445ef0201018c
footprint INF-SOT23_N (SOT23, 3-Leads, Body 2.9x1.3 mm, Pitch 0.95 mm, IPC Medium Density)
footprint INF-SOT23_L (SOT23, 3-Leads, Body 2.9x1.3 mm, Pitch 0.95 mm, IPC High Density)
footprint INF-SOT23_M (SOT23, 3-Leads, Body 2.9x1.3 mm, Pitch 0.95 mm, IPC Low Density)
pins: 1 K1, 2 K2, 3 A

## BAW56S
designator D?
Silicon Switching Diode, SOT363, Reel, Green; Manufacturer: Infineon; PartNumber: BAW56S; Configuration: Quadruple; Green: TRUE; IF (max): 200 mA; IR (max): 150 nA; trr (max): 4 ns; VBR (min): 85 V; VF (max): 1.25 V; VR (max): 80 V; PackageReference: SOT363; PackageDescription: 6-Pin Small Outline Transistor Package, 1.25 x 2 mm Body; Halogen-free: TRUE; Mounting Technology: Surface Mount; ComponentLink1Description: Manufacturer URL; ComponentLink1URL: http://www.infineon.com/; ComponentLink2Description: Datasheet; ComponentLink2URL: http://www.infineon.com/dgdl/baw56series.pdf?folderId=db3a30431400ef6801141b5844e103ea&fileId=db3a30431400ef6801141c24a4a80438; ComponentLink3Description: Package Specification; ComponentLink3URL: http://www.infineon.com/dgdl/SOT363-Package_Overview.pdf?folderId=db3a30431936bc4b01195360bd8f3cdc&fileId=db3a30431936bc4b0119536b62bf3cf5
footprint INF-SOT363_V (SOT23, 6-Leads, Body 2x1.25 mm, Pitch 0.65 mm)
pins: 1 K1, 2 K2, 3 A3, 4 K4, 5 K5, 6 A6

## BAW56U
designator D?
Silicon Switching Diode, SC74, Reel, Green; Manufacturer: Infineon; PartNumber: BAW56U; Configuration: Quadruple; Green: TRUE; IF (max): 200 mA; IR (max): 150 nA; trr (max): 4 ns; VBR (min): 85 V; VF (max): 1.25 V; VR (max): 80 V; PackageVersion: Apr-08; PackageReference: SC74; PackageDescription: 6-Pin Semiconductor Package, 2.9 x 1.6 mm Body, 0.95 mm Pitch; Supplier 1: Mouser; Supplier Part Number 1: N/A; Mounting Technology: Surface Mount; ComponentLink1Description: Manufacturer URL; ComponentLink1URL: http://www.infineon.com/; ComponentLink2Description: Datasheet; ComponentLink2URL: http://www.infineon.com/dgdl/baw56series.pdf?folderId=db3a30431400ef6801141b5844e103ea&fileId=db3a30431400ef6801141c24a4a80438; ComponentLink3Description: Package Specification; ComponentLink3URL: http://www.infineon.com/dgdl/SC74-Package_Overview.pdf?folderId=db3a30431936bc4b01194dec844f40d9&fileId=db3a30431936bc4b01195175d46e3ab3
footprint INF-SC74_N (SOT23, 6-Leads, Body 2.9x1.6mm, Pitch 0.95mm, IPC Medium Density)
footprint INF-SC74_L (SOT23, 6-Leads, Body 2.9x1.6mm, Pitch 0.95mm, IPC High Density)
footprint INF-SC74_M (SOT23, 6-Leads, Body 2.9x1.6mm, Pitch 0.95mm, IPC Low Density)
pins: 1 K1, 2 K2, 3 A3, 4 K4, 5 K5, 6 A6

## BAW78D
designator D?
Silicon Switching Diode, SOT89, Reel, Green; Manufacturer: Infineon; PartNumber: BAW78D; Green: TRUE; PackageReference: SOT89; PackageDescription: 3-Pin Small Outline Transistor Package, 2.5 x 4.5 mm Body; Supplier 1: Mouser; Supplier Part Number 1: N/A; Packing: Reel; Mounting Technology: Surface Mount; ComponentLink1Description: Manufacturer URL; ComponentLink1URL: http://www.infineon.com/; ComponentLink2Description: Datasheet; ComponentLink2URL: http://www.infineon.com/dgdl/baw78_baw79series.pdf?folderId=db3a30431400ef6801141c4ed9df0449&fileId=db3a30431400ef6801141c5037ac044a; ComponentLink3Description: Package Specification; ComponentLink3URL: http://www.infineon.com/dgdl/SOT89-Package_Overview.pdf?folderId=db3a30431936bc4b01195371b8363cff&fileId=db3a30431936bc4b0119537ed61d3d22
footprint INF-SOT89_N (SOT89, 3-Leads, Body 4.5x2.5 mm, Pitch 1.5 mm, IPC Medium Density)
footprint INF-SOT89_L (SOT89, 3-Leads, Body 4.5x2.5 mm, Pitch 1.5 mm, IPC High Density)
footprint INF-SOT89_M (SOT89, 3-Leads, Body 4.5x2.5 mm, Pitch 1.5 mm, IPC Low Density)
pins: 1 A, 2 K, 3 NC

## BAW79D
designator D?
Silicon Switching Diode, SOT89, Reel, Green; Manufacturer: Infineon; PartNumber: BAW79D; Green: TRUE; PackageReference: SOT89; PackageDescription: 3-Pin Small Outline Transistor Package, 2.5 x 4.5 mm Body; Supplier 1: Mouser; Supplier Part Number 1: N/A; Packing: Reel; Mounting Technology: Surface Mount; ComponentLink1Description: Manufacturer URL; ComponentLink1URL: http://www.infineon.com/; ComponentLink2Description: Datasheet; ComponentLink2URL: http://www.infineon.com/dgdl/baw78_baw79series.pdf?folderId=db3a30431400ef6801141c4ed9df0449&fileId=db3a30431400ef6801141c5037ac044a; ComponentLink3Description: Package Specification; ComponentLink3URL: http://www.infineon.com/dgdl/SOT89-Package_Overview.pdf?folderId=db3a30431936bc4b01195371b8363cff&fileId=db3a30431936bc4b0119537ed61d3d22
footprint INF-SOT89_N (SOT89, 3-Leads, Body 4.5x2.5 mm, Pitch 1.5 mm, IPC Medium Density)
footprint INF-SOT89_L (SOT89, 3-Leads, Body 4.5x2.5 mm, Pitch 1.5 mm, IPC High Density)
footprint INF-SOT89_M (SOT89, 3-Leads, Body 4.5x2.5 mm, Pitch 1.5 mm, IPC Low Density)
pins: 1 A, 2 K, 3 A

## BAW101
designator D?
Silicon Switching Diode, SOT143, Reel, Green; Manufacturer: Infineon; PartNumber: BAW101; Configuration: Dual; Green: TRUE; IF (max): 250 mA; IR (max): 150 nA; trr (max): 1,000 ns; VBR (min): 300 V; VF (max): 1.3 V; PackageReference: SOT143; PackageDescription: 4-Pin Small Outline Transistor Package, 1.3 x 2.9 mm Body; VR (max): 300 V; Mounting Technology: Surface Mount; ComponentLink1Description: Manufacturer URL; ComponentLink1URL: http://www.infineon.com/; ComponentLink2Description: Datasheet; ComponentLink2URL: http://www.infineon.com/dgdl/baw101series.pdf?folderId=db3a30431400ef6801141b5844e103ea&fileId=db3a30431400ef6801141c22fea80436; ComponentLink3Description: Package Specification; ComponentLink3URL: http://www.infineon.com/dgdl/SOT143-Package_Overview.pdf?folderId=db3a30431936bc4b011952ce8b1b3bed&fileId=db3a30431936bc4b011952df42203c0c
footprint INF-SOT143_V (SOT143, 4-Leads, Body 2.9x1.3 mm)
pins: 1 K1, 2 K2, 3 A2, 4 A1

## BAW156
designator D?
Silicon Low Leakage Diode, -65 to 150 degC, SOT23, Reel, Green; Manufacturer: Infineon; PartNumber: BAW156; Green: TRUE; PackageVersion: Apr-08; PackageReference: SOT23; PackageDescription: 3-Pin Small Outline Transistor Package, 1.3 x 2.9 mm Body, 0.95 mm Pitch; Packing: Reel; Mounting Technology: Surface Mount; ComponentLink1Description: Manufacturer URL; ComponentLink1URL: http://www.infineon.com/; ComponentLink2Description: Datasheet; ComponentLink2URL: http://www.infineon.com/dgdl/baw156series.pdf?folderId=db3a30431400ef6801141c748874044e&fileId=db3a304314dca3890114f53d558108b1; ComponentLink3Description: Package Specification; ComponentLink3URL: http://www.infineon.com/dgdl/smbta14_mmbta14.pdf?folderId=db3a30431441fb5d011445c30f210183&fileId=db3a30431441fb5d011445ef0201018c
footprint INF-SOT23_N (SOT23, 3-Leads, Body 2.9x1.3 mm, Pitch 0.95 mm, IPC Medium Density)
footprint INF-SOT23_L (SOT23, 3-Leads, Body 2.9x1.3 mm, Pitch 0.95 mm, IPC High Density)
footprint INF-SOT23_M (SOT23, 3-Leads, Body 2.9x1.3 mm, Pitch 0.95 mm, IPC Low Density)
pins: 1 K1, 2 K2, 3 A

## BBS3002-DL-1E
designator Q?
P-Channel Power MOSFET, -60 V, -100 A, 5.8 mOhm, 3-Pin TO-263, Pb-Free, Tape and Reel; Manufacturer: On Semiconductor; PartNumber: BBS3002-DL-1E; Channel Polarity: P Channel; Ciss Typ (pF): 13200; Configuration: Single; Coss Typ (pF): 1300; Crss Typ (pF): 950; ID Max (A): 100; PD Max (W): 90; V(BR)DSS Min (V): 60; VGS Max (V): 20; VGS(th) Max (V): 2.6; PackageReference: TO-263-2L-3; PackageDescription: 3-Pin Flange Mount, Body 10 x 9.2 mm, Pitch 2.54 mm; Supplier 1: Newark; Supplier Part Number 1: 56W5114; Supplier 2: Mouser; Supplier Part Number 2: 863-BBS3002-DL-1E; Package Type: D2PAK / TO-263-2L; Packing: Tape and Reel; RoHS: Pb-Free; Mounting Technology: Surface Mount; ComponentLink1Description: Manufacturer URL; ComponentLink1URL: http://www.onsemi.com/; ComponentLink2Description: Datasheet; ComponentLink2URL: http://www.onsemi.com/pub_link/Collateral/BBS3002-D.PDF; ComponentLink3Description: Package Specification; ComponentLink3URL: http://www.onsemi.com/pub_link/Collateral/2SK3820-D.PDF
footprint ONSC-TO-263-2L-3_V (FM, 3-Leads, Body 10x9.2mm, Pitch 2.54mm)
pins: 1 G, 3 S, 4 D

## BC237B
designator Q?
Amplifier Transistor, NPN Silicon, 3-Pin TO-92, Bulk Box; Manufacturer: On Semiconductor; PartNumber: BC237B; Note: 0; IC Continuous (A): 0.1; DatasheetVersion: Rev. 5; PackageVersion: Rev. AM; PackageReference: TO-92-3-29-11_AM_SL; PackageDescription: 3-Pin Transistor Outline, Body 4.825 x 3.685 mm, Pitch 1.27 mm; Packing: Bulk Box; Polarity: NPN; RoHS: FALSE; Mounting Technology: Through Hole; ComponentLink1Description: Manufacturer URL; ComponentLink1URL: http://www.onsemi.com/; ComponentLink2Description: Datasheet; ComponentLink2URL: http://www.onsemi.com/pub_link/Collateral/BC237-D.PDF; ComponentLink3Description: Package Specification; ComponentLink3URL: http://www.onsemi.cn/pub_link/Collateral/2N6426-D.PDF
footprint ONSC-TO-92-3-29-11 (TO, 3-Leads, Body Dia 4.7mm, Pitch 1.27mm)
pins: 1 C, 2 B, 3 E

## BC237BG
designator Q?
Amplifier Transistor, NPN Silicon, 3-Pin TO-92, Pb-Free, Bulk Box; Manufacturer: On Semiconductor; PartNumber: BC237BG; IC Continuous (A): 0.1; DatasheetVersion: Rev. 5; PackageVersion: Rev. AM; PackageReference: TO-92-3-29-11_AM_SL; PackageDescription: 3-Pin Transistor Outline, Body 4.825 x 3.685 mm, Pitch 1.27 mm; Supplier 1: Digi-Key; Supplier Part Number 1: BC237BGOS-ND; Supplier 2: Farnell; Supplier Part Number 2: 2124959; Supplier 3: Newark; Supplier Part Number 3: 26K3383; Supplier 4: Mouser; Supplier Part Number 4: 863-BC237BG; Packing: Bulk Box; Polarity: NPN; RoHS: TRUE; Mounting Technology: Through Hole; ComponentLink1Description: Manufacturer URL; ComponentLink1URL: http://www.onsemi.com/; ComponentLink2Description: Datasheet; ComponentLink2URL: http://www.onsemi.com/pub_link/Collateral/BC237-D.PDF; ComponentLink3Description: Package Specification; ComponentLink3URL: http://www.onsemi.cn/pub_link/Collateral/2N6426-D.PDF
footprint ONSC-TO-92-3-29-11 (TO, 3-Leads, Body Dia 4.7mm, Pitch 1.27mm)
pins: 1 C, 2 B, 3 E

## BC237BRL1G
designator Q?
Amplifier Transistor, NPN Silicon, 3-Pin TO-92, Pb-Free, Tape and Reel; Manufacturer: On Semiconductor; PartNumber: BC237BRL1G; IC Continuous (A): 0.1; DatasheetVersion: Rev. 5; PackageVersion: Rev. AM; PackageReference: TO-92-3-29-11_AM_BL; PackageDescription: 3-Pin Transistor Outline, Body 4.825 x 3.685 mm, Pitch 1.27 mm; Supplier 1: Digi-Key; Supplier Part Number 1: BC237BRL1GOSTR-ND; Supplier 2: Digi-Key; Supplier Part Number 2: BC237BRL1GOSCT-ND; Supplier 3: Newark; Supplier Part Number 3: 85W2272; Supplier 4: Mouser; Supplier Part Number 4: 863-BC237BRL1G; Packing: Tape and Reel; Polarity: NPN; RoHS: TRUE; Mounting Technology: Through Hole; ComponentLink1Description: Manufacturer URL; ComponentLink1URL: http://www.onsemi.com/; ComponentLink2Description: Datasheet; ComponentLink2URL: http://www.onsemi.com/pub_link/Collateral/BC237-D.PDF; ComponentLink3Description: Package Specification; ComponentLink3URL: http://www.onsemi.com/pub_link/Collateral/MAC97-D.PDF
footprint ONSC-TO-92-3-29-11_AM_BL (TO, 3-Leads, Body Dia 4.7mm, Pitch 2.6mm)
pins: 1 C, 2 B, 3 E

## BC327-025G
designator Q?
Amplifier Transistor, PNP Silicon, 3-Pin TO-92, Pb-Free, Bulk Box; Manufacturer: On Semiconductor; PartNumber: BC327-025G; IC Continuous (A): -0.8; DatasheetVersion: Rev. 6; PackageVersion: Rev. AM; PackageReference: TO-92-3-29-11_AM_SL; PackageDescription: 3-Pin Transistor Outline, Body 4.825 x 3.685 mm, Pitch 1.27 mm; Supplier 1: Digi-Key; Supplier Part Number 1: BC327-025GOS-ND; Supplier 2: Newark; Supplier Part Number 2: 41K9593; Supplier 3: Mouser; Supplier Part Number 3: 863-BC327-025G; Packing: Bulk Box; Polarity: PNP; RoHS: TRUE; Mounting Technology: Through Hole; ComponentLink1Description: Manufacturer URL; ComponentLink1URL: http://www.onsemi.com/; ComponentLink2Description: Datasheet; ComponentLink2URL: http://www.onsemi.com/pub_link/Collateral/BC327-D.PDF; ComponentLink3Description: Package Specification; ComponentLink3URL: http://www.onsemi.cn/pub_link/Collateral/2N6426-D.PDF
footprint ONSC-TO-92-3-29-11 (TO, 3-Leads, Body Dia 4.7mm, Pitch 1.27mm)
pins: 1 C, 2 B, 3 E

## BC327-25RL1G
designator Q?
Amplifier Transistor, PNP Silicon, 3-Pin TO-92, Pb-Free, Tape and Reel; Manufacturer: On Semiconductor; PartNumber: BC327-25RL1G; IC Continuous (A): -0.8; DatasheetVersion: Rev. 6; PackageVersion: Rev. AM; PackageReference: TO-92-3-29-11_AM_BL; PackageDescription: 3-Pin Transistor Outline, Body 4.825 x 3.685 mm, Pitch 1.27 mm; Supplier 1: Digi-Key; Supplier Part Number 1: BC327-25RL1GOSTR-ND; Supplier 2: Digi-Key; Supplier Part Number 2: BC327-25RL1GOSCT-ND; Supplier 3: Farnell; Supplier Part Number 3: 1155539; Supplier 4: Newark; Supplier Part Number 4: 71J3394; Supplier 5: Mouser; Supplier Part Number 5: 863-BC327-25RL1G; Packing: Tape and Reel; Polarity: PNP; RoHS: TRUE; Mounting Technology: Through Hole; ComponentLink1Description: Manufacturer URL; ComponentLink1URL: http://www.onsemi.com/; ComponentLink2Description: Datasheet; ComponentLink2URL: http://www.onsemi.com/pub_link/Collateral/BC327-D.PDF; ComponentLink3Description: Package Specification; ComponentLink3URL: http://www.onsemi.com/pub_link/Collateral/MAC97-D.PDF
footprint ONSC-TO-92-3-29-11_AM_BL (TO, 3-Leads, Body Dia 4.7mm, Pitch 2.6mm)
pins: 1 C, 2 B, 3 E

## BC327-25ZL1G
designator Q?
Amplifier Transistor, PNP Silicon, 3-Pin TO-92, Pb-Free, Ammo Box; Manufacturer: On Semiconductor; PartNumber: BC327-25ZL1G; IC Continuous (A): -0.8; DatasheetVersion: Rev. 6; PackageVersion: Rev. AM; PackageReference: TO-92-3-29-11_AM_BL; PackageDescription: 3-Pin Transistor Outline, Body 4.825 x 3.685 mm, Pitch 1.27 mm; Supplier 1: Digi-Key; Supplier Part Number 1: BC327-25ZL1GOSTB-ND; Supplier 2: Digi-Key; Supplier Part Number 2: BC327-25ZL1GOSCT-ND; Supplier 3: Farnell; Supplier Part Number 3: 9558489; Supplier 4: Newark; Supplier Part Number 4: 37K9383; Supplier 5: Newark; Supplier Part Number 5: 85W2273; Supplier 6: Mouser; Supplier Part Number 6: 863-BC327-25ZL1G; Packing: Ammo Box; Polarity: PNP; RoHS: TRUE; Mounting Technology: Through Hole; ComponentLink1Description: Manufacturer URL; ComponentLink1URL: http://www.onsemi.com/; ComponentLink2Description: Datasheet; ComponentLink2URL: http://www.onsemi.com/pub_link/Collateral/BC327-D.PDF; ComponentLink3Description: Package Specification; ComponentLink3URL: http://www.onsemi.com/pub_link/Collateral/MAC97-D.PDF
footprint ONSC-TO-92-3-29-11_AM_BL (TO, 3-Leads, Body Dia 4.7mm, Pitch 2.6mm)
pins: 1 C, 2 B, 3 E

## BC327-40ZL1G
designator Q?
Amplifier Transistor, PNP Silicon, 3-Pin TO-92, Pb-Free, Ammo Box; Manufacturer: On Semiconductor; PartNumber: BC327-40ZL1G; IC Continuous (A): -0.8; DatasheetVersion: Rev. 6; PackageVersion: Rev. AM; PackageReference: TO-92-3-29-11_AM_BL; PackageDescription: 3-Pin Transistor Outline, Body 4.825 x 3.685 mm, Pitch 1.27 mm; Supplier 1: Digi-Key; Supplier Part Number 1: BC327-40ZL1GOSTB-ND; Supplier 2: Digi-Key; Supplier Part Number 2: BC327-40ZL1GOSCT-ND; Supplier 3: Farnell; Supplier Part Number 3: 2317541; Supplier 4: Farnell; Supplier Part Number 4: 2322378; Supplier 5: Newark; Supplier Part Number 5: 26K3394; Supplier 6: Mouser; Supplier Part Number 6: 863-BC327-40ZL1G; Packing: Ammo Box; Polarity: PNP; RoHS: TRUE; Mounting Technology: Through Hole; ComponentLink1Description: Manufacturer URL; ComponentLink1URL: http://www.onsemi.com/; ComponentLink2Description: Datasheet; ComponentLink2URL: http://www.onsemi.com/pub_link/Collateral/BC327-D.PDF; ComponentLink3Description: Package Specification; ComponentLink3URL: http://www.onsemi.com/pub_link/Collateral/MAC97-D.PDF
footprint ONSC-TO-92-3-29-11_AM_BL (TO, 3-Leads, Body Dia 4.7mm, Pitch 2.6mm)
pins: 1 C, 2 B, 3 E

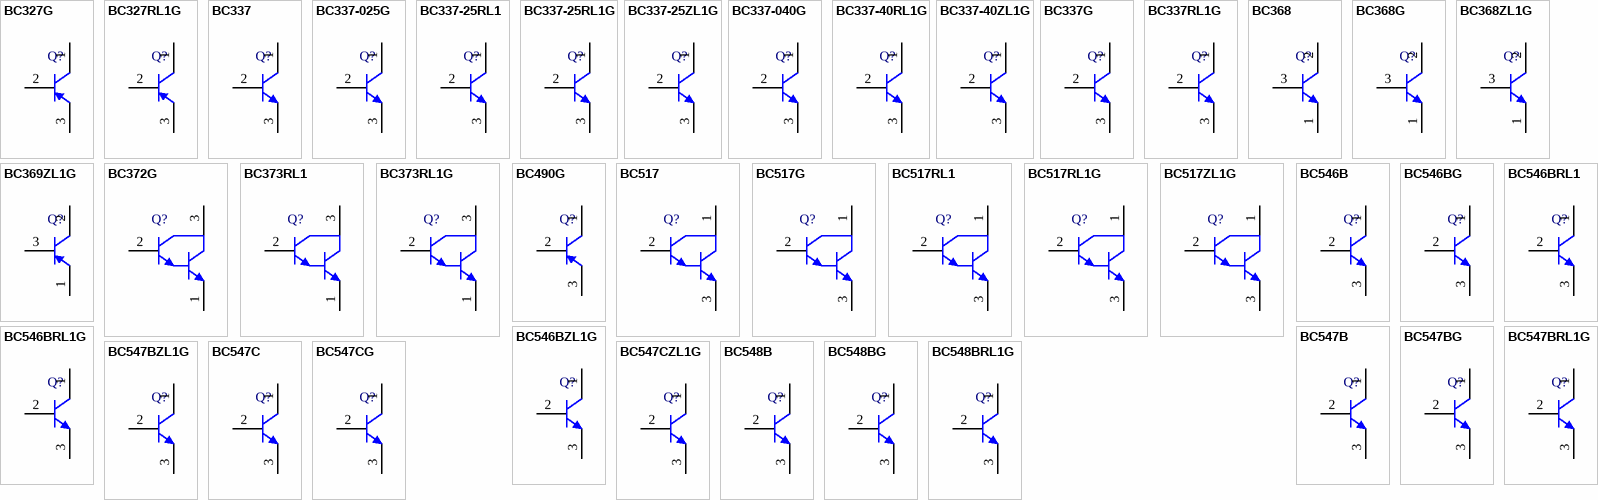
[diagram p14: symbols BC327G to BC548BRL1G]